# Altium footprint library Multiplexores.PcbLib: 2 footprints
Each footprint in its own frame and in the unit in brackets; x right, y up, seen from the top. Pads: shape width x height; smd on the part's side, far side on the other; paste and mask are expansions set on the pad; w line width, h text height; cw(c..) or ccw(c..) is an arc to the next point about the centre after c.
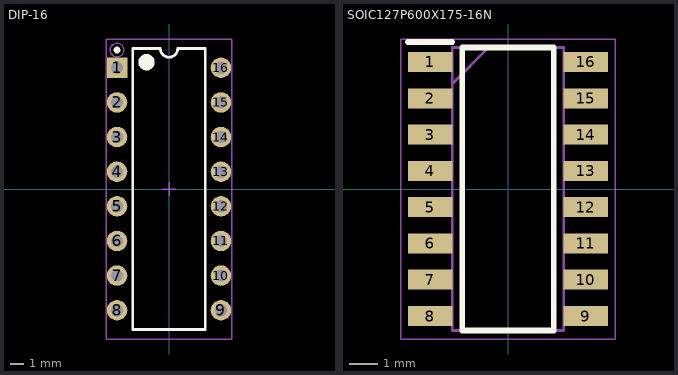
[diagram p0: the footprints below, top view; thin cyan lines are the x and y axes]

## DIP-16 [mm]
pads (16):
  rect 1.5x1.5 hole 0.9: 1(-3.81,8.915)
  round 1.5 hole 0.9: 2(-3.81,6.375) 3(-3.81,3.835) 4(-3.81,1.295) 5(-3.81,-1.245) 6(-3.81,-3.785) 7(-3.81,-6.325) 8(-3.81,-8.865) 9(3.81,-8.865) 10(3.81,-6.325) 11(3.81,-3.785) 12(3.81,-1.245) 13(3.81,1.295) 14(3.81,3.835) 15(3.81,6.375) 16(3.81,8.915)
Top Overlay:
  circle w0.25: c-3.81,10.215 r0.125
  circle w0.6: c-1.65,9.325 r0.3
  lines w0.2: -2.65,-10.275 -2.65,10.325 -0.635,10.325 ccw(c0,10.325) 0.635,10.325 2.65,10.325 2.65,-10.275 -2.65,-10.275
Mechanical 13:
  circle w0.1: c-3.81,10.211 r0.5
  lines w0.1: -4.6,-10.975 -4.6,11.025 4.6,11.025 4.6,-10.975 -4.6,-10.975
Mechanical 15:
  lines w0.1: -0.5,0.025 0.5,0.025 ; 0,-0.475 0,0.525
3D body "DIP-16.STEP": height 4.19, standoff -2.57, extent -3.937,-10.77 3.937,10.82

## SOIC127P600X175-16N [mm]
pads (16):
  rect 1.55x0.7 smd: 1(-2.725,4.445) 2(-2.725,3.175) 3(-2.725,1.905) 4(-2.725,0.635) 5(-2.725,-0.635) 6(-2.725,-1.905) 7(-2.725,-3.175) 8(-2.725,-4.445) 9(2.725,-4.445) 10(2.725,-3.175) 11(2.725,-1.905) 12(2.725,-0.635) 13(2.725,0.635) 14(2.725,1.905) 15(2.725,3.175) 16(2.725,4.445)
Top Overlay:
  lines w0.2: -3.5,5.145 -1.95,5.145 ; -1.6,-4.95 1.6,-4.95 1.6,4.95 -1.6,4.95 -1.6,-4.95
Mechanical 13:
  lines w0.1: -1.95,3.68 -0.68,4.95 ; -1.95,-4.95 1.95,-4.95 1.95,4.95 -1.95,4.95 -1.95,-4.95
Mechanical 15:
  lines w0.05: -3.75,-5.25 3.75,-5.25 3.75,5.25 -3.75,5.25 -3.75,-5.25
3D body "74HC4053D,653.stp": height 1.75, standoff 0, extent -3,-4.95 3,4.95